# Altium footprint library ultravolt.PcbLib: 1 footprints
Each footprint in its own frame and in the unit in brackets; x right, y up, seen from the top. Pads: shape width x height; smd on the part's side, far side on the other; paste and mask are expansions set on the pad; w line width, h text height; cw(c..) or ccw(c..) is an arc to the next point about the centre after c.
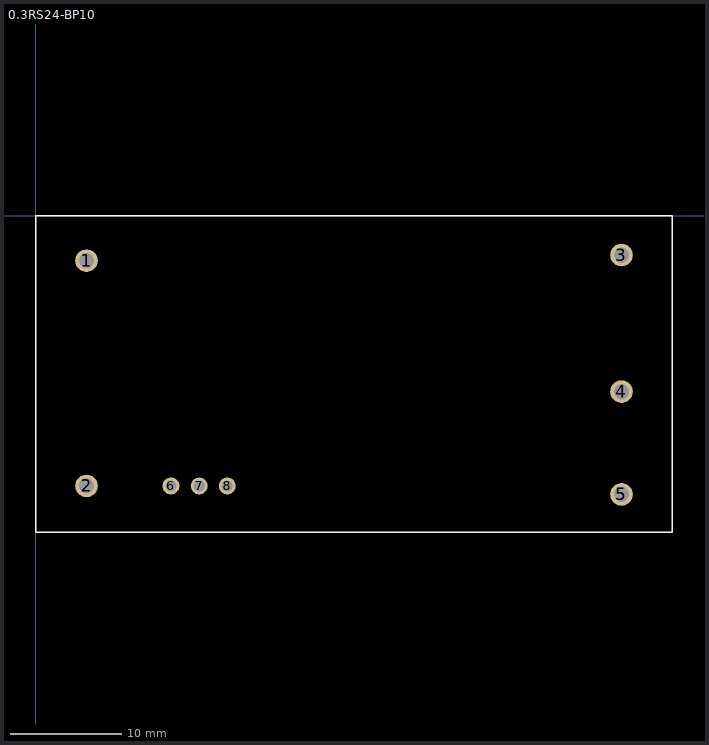
[diagram p0: the footprint, top view; thin cyan lines are the x and y axes]

## 0.3RS24-BP10 [mil] "28 to 600 V"
height 750
pads (8):
  round 80 hole 55: 1(180,-160) 2(180,-960) 3(2080,-140) 4(2080,-625) 5(2080,-990)
  round 60 hole 40: 6(480,-960) 7(580,-960) 8(680,-960)
Top Overlay:
  lines w5: 0,-1125 2260,-1125 2260,0 0,0 0,-1125
3D body: height 750, standoff 0, extent 0,-1125 2260,0